# Altium integrated library Altium_WE-CNSW_rev25a.IntLib: 29 symbols
Pins are listed as number, name and electrical type; pins without a type are passive.

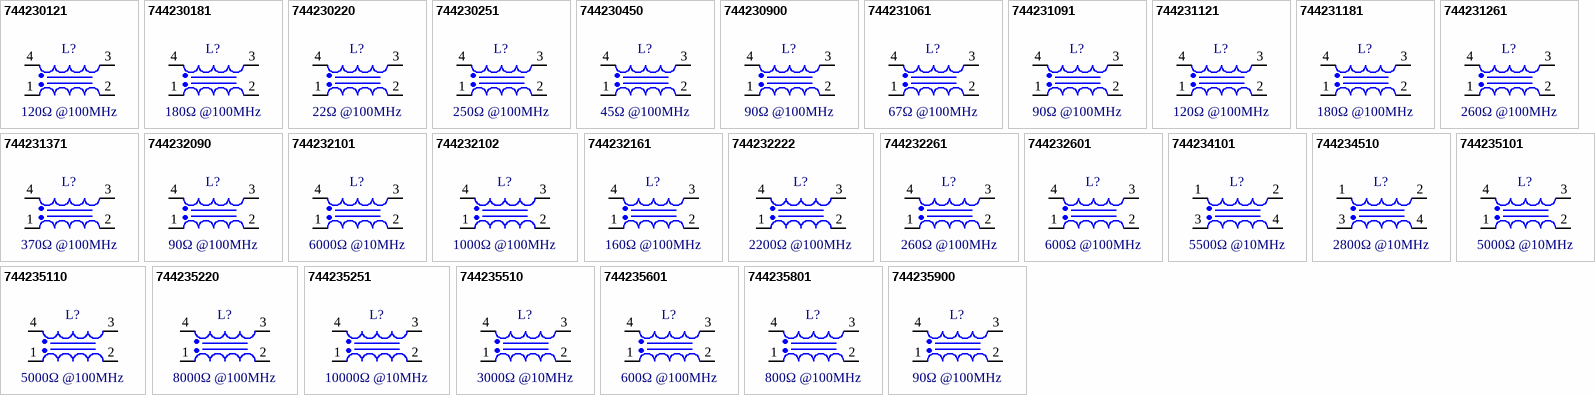
[diagram p0: symbols 744230121 to 744235900]

## 744230121
designator L?, comment 120Ω @100MHz
WE-CNSW SMT Common Mode Line Filter, size 0603, 120Ω @100MHz, 0.146μH, 50V; Manufacturer Part Number: 744230121; Manufacturer: Wurth Elektronik; Case/Size Code: 0603; DC Resistance Max: 0.175Ω; Insulation Test Voltage: 125VAC; Rated Current: 0.45A; Winding Style: bifiliar; Category: Common Mode Chokes; Match Code: WE-CNSW; ComponentLink1Description: Website Link; ComponentLink1URL: https://www.we-online.com/redexpert/article/744230121?ad; ComponentLink2Description: Datasheet Link; ComponentLink2URL: https://www.we-online.com/redexpert/spec/744230121?ad; Mount: Surface Mount; Min Operating Temperature: -40°C; Max Operating Temperature: 125°C; Packaging: Tape and Reel; Length: 1.6mm; Width: 0.85mm; Height: 1.1mm; Impedance @100MHz: 120Ω; Inductance: 0.146μH; Rated Voltage: 50V
footprint WE-CNSW_0603
pins: 1, 2, 3, 4

## 744230181
designator L?, comment 180Ω @100MHz
WE-CNSW SMT Common Mode Line Filter, size 0603, 180Ω @100MHz, 0.22μH, 50V; Manufacturer Part Number: 744230181; Manufacturer: Wurth Elektronik; Case/Size Code: 0603; DC Resistance Max: 0.21Ω; Insulation Test Voltage: 125VAC; Rated Current: 0.4A; Winding Style: bifiliar; Category: Common Mode Chokes; Match Code: WE-CNSW; ComponentLink1Description: Website Link; ComponentLink1URL: https://www.we-online.com/redexpert/article/744230181?ad; ComponentLink2Description: Datasheet Link; ComponentLink2URL: https://www.we-online.com/redexpert/spec/744230181?ad; Mount: Surface Mount; Min Operating Temperature: -40°C; Max Operating Temperature: 125°C; Packaging: Tape and Reel; Length: 1.6mm; Width: 0.85mm; Height: 1.1mm; Impedance @100MHz: 180Ω; Inductance: 0.22μH; Rated Voltage: 50V
footprint WE-CNSW_0603
pins: 1, 2, 3, 4

## 744230220
designator L?, comment 22Ω @100MHz
WE-CNSW SMT Common Mode Line Filter, size 0603, 22Ω @100MHz, 0.027μH, 50V; Manufacturer Part Number: 744230220; Manufacturer: Wurth Elektronik; Case/Size Code: 0603; DC Resistance Max: 0.08Ω; Insulation Test Voltage: 125VAC; Rated Current: 0.8A; Winding Style: bifiliar; Category: Common Mode Chokes; Match Code: WE-CNSW; ComponentLink1Description: Website Link; ComponentLink1URL: https://www.we-online.com/redexpert/article/744230220?ad; ComponentLink2Description: Datasheet Link; ComponentLink2URL: https://www.we-online.com/redexpert/spec/744230220?ad; Mount: Surface Mount; Min Operating Temperature: -40°C; Max Operating Temperature: 125°C; Packaging: Tape and Reel; Length: 1.6mm; Width: 0.85mm; Height: 1.1mm; Impedance @100MHz: 22Ω; Inductance: 0.027μH; Rated Voltage: 50V
footprint WE-CNSW_0603
pins: 1, 2, 3, 4

## 744230251
designator L?, comment 250Ω @100MHz
WE-CNSW SMT Common Mode Line Filter, size 0603, 250Ω @100MHz, 0.279μH, 50V; Manufacturer Part Number: 744230251; Manufacturer: Wurth Elektronik; Case/Size Code: 0603; DC Resistance Max: 0.28Ω; Insulation Test Voltage: 125VAC; Rated Current: 0.35A; Winding Style: bifiliar; Category: Common Mode Chokes; Match Code: WE-CNSW; ComponentLink1Description: Website Link; ComponentLink1URL: https://www.we-online.com/redexpert/article/744230251?ad; ComponentLink2Description: Datasheet Link; ComponentLink2URL: https://www.we-online.com/redexpert/spec/744230251?ad; Mount: Surface Mount; Min Operating Temperature: -40°C; Max Operating Temperature: 125°C; Packaging: Tape and Reel; Length: 1.6mm; Width: 0.85mm; Height: 1.1mm; Impedance @100MHz: 250Ω; Inductance: 0.279μH; Rated Voltage: 50V
footprint WE-CNSW_0603
pins: 1, 2, 3, 4

## 744230450
designator L?, comment 45Ω @100MHz
WE-CNSW SMT Common Mode Line Filter, size 0603, 45Ω @100MHz, 0.056μH, 50V; Manufacturer Part Number: 744230450; Manufacturer: Wurth Elektronik; Case/Size Code: 0603; DC Resistance Max: 0.11Ω; Insulation Test Voltage: 125VAC; Rated Current: 0.65A; Winding Style: bifiliar; Category: Common Mode Chokes; Match Code: WE-CNSW; ComponentLink1Description: Website Link; ComponentLink1URL: https://www.we-online.com/redexpert/article/744230450?ad; ComponentLink2Description: Datasheet Link; ComponentLink2URL: https://www.we-online.com/redexpert/spec/744230450?ad; Mount: Surface Mount; Min Operating Temperature: -40°C; Max Operating Temperature: 125°C; Packaging: Tape and Reel; Length: 1.6mm; Width: 0.85mm; Height: 1.1mm; Impedance @100MHz: 45Ω; Inductance: 0.056μH; Rated Voltage: 50V
footprint WE-CNSW_0603
pins: 1, 2, 3, 4

## 744230900
designator L?, comment 90Ω @100MHz
WE-CNSW SMT Common Mode Line Filter, size 0603, 90Ω @100MHz, 0.134μH, 50V; Manufacturer Part Number: 744230900; Manufacturer: Wurth Elektronik; Case/Size Code: 0603; DC Resistance Max: 0.145Ω; Insulation Test Voltage: 125VAC; Rated Current: 0.55A; Winding Style: bifiliar; Category: Common Mode Chokes; Match Code: WE-CNSW; ComponentLink1Description: Website Link; ComponentLink1URL: https://www.we-online.com/redexpert/article/744230900?ad; ComponentLink2Description: Datasheet Link; ComponentLink2URL: https://www.we-online.com/redexpert/spec/744230900?ad; Mount: Surface Mount; Min Operating Temperature: -40°C; Max Operating Temperature: 125°C; Packaging: Tape and Reel; Length: 1.6mm; Width: 0.85mm; Height: 1.1mm; Impedance @100MHz: 90Ω; Inductance: 0.134μH; Rated Voltage: 50V
footprint WE-CNSW_0603
pins: 1, 2, 3, 4

## 744231061
designator L?, comment 67Ω @100MHz
WE-CNSW SMT Common Mode Line Filter, size 0805, 67Ω @100MHz, 0.088μH, 50V; Manufacturer Part Number: 744231061; Manufacturer: Wurth Elektronik; Case/Size Code: 0805; DC Resistance Max: 0.25Ω; Insulation Test Voltage: 125VAC; Rated Current: 0.4A; Winding Style: bifiliar; Category: Common Mode Chokes; Match Code: WE-CNSW; ComponentLink1Description: Website Link; ComponentLink1URL: https://www.we-online.com/redexpert/article/744231061?ad; ComponentLink2Description: Datasheet Link; ComponentLink2URL: https://www.we-online.com/redexpert/spec/744231061?ad; Mount: Surface Mount; Min Operating Temperature: -40°C; Max Operating Temperature: 125°C; Packaging: Tape and Reel; Length: 2mm; Width: 1.2mm; Height: 1.2mm; Impedance @100MHz: 67Ω; Inductance: 0.088μH; Rated Voltage: 50V
footprint WE-CNSW_0805
pins: 1, 2, 3, 4

## 744231091
designator L?, comment 90Ω @100MHz
WE-CNSW SMT Common Mode Line Filter, size 0805, 90Ω @100MHz, 0.131μH, 50V; Manufacturer Part Number: 744231091; Manufacturer: Wurth Elektronik; Case/Size Code: 0805; DC Resistance Max: 0.3Ω; Insulation Test Voltage: 125VAC; Rated Current: 0.37A; Winding Style: bifiliar; Category: Common Mode Chokes; Match Code: WE-CNSW; ComponentLink1Description: Website Link; ComponentLink1URL: https://www.we-online.com/redexpert/article/744231091?ad; ComponentLink2Description: Datasheet Link; ComponentLink2URL: https://www.we-online.com/redexpert/spec/744231091?ad; Mount: Surface Mount; Min Operating Temperature: -40°C; Max Operating Temperature: 125°C; Packaging: Tape and Reel; Length: 2mm; Width: 1.2mm; Height: 1.2mm; Impedance @100MHz: 90Ω; Inductance: 0.131μH; Rated Voltage: 50V
footprint WE-CNSW_0805
pins: 1, 2, 3, 4

## 744231121
designator L?, comment 120Ω @100MHz
WE-CNSW SMT Common Mode Line Filter, size 0805, 120Ω @100MHz, 0.166μH, 50V; Manufacturer Part Number: 744231121; Manufacturer: Wurth Elektronik; Case/Size Code: 0805; DC Resistance Max: 0.3Ω; Insulation Test Voltage: 125VAC; Rated Current: 0.37A; Winding Style: bifiliar; Category: Common Mode Chokes; Match Code: WE-CNSW; ComponentLink1Description: Website Link; ComponentLink1URL: https://www.we-online.com/redexpert/article/744231121?ad; ComponentLink2Description: Datasheet Link; ComponentLink2URL: https://www.we-online.com/redexpert/spec/744231121?ad; Mount: Surface Mount; Min Operating Temperature: -40°C; Max Operating Temperature: 125°C; Packaging: Tape and Reel; Length: 2mm; Width: 1.2mm; Height: 1.2mm; Impedance @100MHz: 120Ω; Inductance: 0.166μH; Rated Voltage: 50V
footprint WE-CNSW_0805
pins: 1, 2, 3, 4

## 744231181
designator L?, comment 180Ω @100MHz
WE-CNSW SMT Common Mode Line Filter, size 0805, 180Ω @100MHz, 0.252μH, 50V; Manufacturer Part Number: 744231181; Manufacturer: Wurth Elektronik; Case/Size Code: 0805; DC Resistance Max: 0.35Ω; Insulation Test Voltage: 125VAC; Rated Current: 0.33A; Winding Style: bifiliar; Category: Common Mode Chokes; Match Code: WE-CNSW; ComponentLink1Description: Website Link; ComponentLink1URL: https://www.we-online.com/redexpert/article/744231181?ad; ComponentLink2Description: Datasheet Link; ComponentLink2URL: https://www.we-online.com/redexpert/spec/744231181?ad; Mount: Surface Mount; Min Operating Temperature: -40°C; Max Operating Temperature: 125°C; Packaging: Tape and Reel; Length: 2mm; Width: 1.2mm; Height: 1.2mm; Impedance @100MHz: 180Ω; Inductance: 0.252μH; Rated Voltage: 50V
footprint WE-CNSW_0805
pins: 1, 2, 3, 4

## 744231261
designator L?, comment 260Ω @100MHz
WE-CNSW SMT Common Mode Line Filter, size 0805, 260Ω @100MHz, 0.367μH, 50V; Manufacturer Part Number: 744231261; Manufacturer: Wurth Elektronik; Case/Size Code: 0805; DC Resistance Max: 0.4Ω; Insulation Test Voltage: 125VAC; Rated Current: 0.3A; Winding Style: bifiliar; Category: Common Mode Chokes; Match Code: WE-CNSW; ComponentLink1Description: Website Link; ComponentLink1URL: https://www.we-online.com/redexpert/article/744231261?ad; ComponentLink2Description: Datasheet Link; ComponentLink2URL: https://www.we-online.com/redexpert/spec/744231261?ad; Mount: Surface Mount; Min Operating Temperature: -40°C; Max Operating Temperature: 125°C; Packaging: Tape and Reel; Length: 2mm; Width: 1.2mm; Height: 1.2mm; Impedance @100MHz: 260Ω; Inductance: 0.367μH; Rated Voltage: 50V
footprint WE-CNSW_0805
pins: 1, 2, 3, 4

## 744231371
designator L?, comment 370Ω @100MHz
WE-CNSW SMT Common Mode Line Filter, size 0805, 370Ω @100MHz, 0.478μH, 50V; Manufacturer Part Number: 744231371; Manufacturer: Wurth Elektronik; Case/Size Code: 0805; DC Resistance Max: 0.45Ω; Insulation Test Voltage: 125VAC; Rated Current: 0.28A; Winding Style: bifiliar; Category: Common Mode Chokes; Match Code: WE-CNSW; ComponentLink1Description: Website Link; ComponentLink1URL: https://www.we-online.com/redexpert/article/744231371?ad; ComponentLink2Description: Datasheet Link; ComponentLink2URL: https://www.we-online.com/redexpert/spec/744231371?ad; Mount: Surface Mount; Min Operating Temperature: -40°C; Max Operating Temperature: 125°C; Packaging: Tape and Reel; Length: 2mm; Width: 1.2mm; Height: 1.2mm; Impedance @100MHz: 370Ω; Inductance: 0.478μH; Rated Voltage: 50V
footprint WE-CNSW_0805
pins: 1, 2, 3, 4

## 744232090
designator L?, comment 90Ω @100MHz
WE-CNSW SMT Common Mode Line Filter, size 1206, 90Ω @100MHz, 0.111μH, 50V; Manufacturer Part Number: 744232090; Manufacturer: Wurth Elektronik; Case/Size Code: 1206; DC Resistance Max: 0.3Ω; Insulation Test Voltage: 125VAC; Rated Current: 0.37A; Winding Style: bifiliar; Category: Common Mode Chokes; Match Code: WE-CNSW; ComponentLink1Description: Website Link; ComponentLink1URL: https://www.we-online.com/redexpert/article/744232090?ad; ComponentLink2Description: Datasheet Link; ComponentLink2URL: https://www.we-online.com/redexpert/spec/744232090?ad; Mount: Surface Mount; Min Operating Temperature: -40°C; Max Operating Temperature: 125°C; Packaging: Tape and Reel; Length: 3.2mm; Width: 1.6mm; Height: 1.8mm; Impedance @100MHz: 90Ω; Inductance: 0.111μH; Rated Voltage: 50V
footprint WE-CNSW_1206
pins: 1, 2, 3, 4

## 744232101
designator L?, comment 6000Ω @10MHz
WE-CNSW SMT Common Mode Line Filter, size 1206, 6000Ω @10MHz, 105.3μH, 50V; Manufacturer Part Number: 744232101; Manufacturer: Wurth Elektronik; Case/Size Code: 1206; DC Resistance Max: 5.5Ω; Insulation Test Voltage: 125VAC; Rated Current: 0.09A; Winding Style: bifiliar; Category: Common Mode Chokes; Match Code: WE-CNSW; ComponentLink1Description: Website Link; ComponentLink1URL: https://www.we-online.com/redexpert/article/744232101?ad; ComponentLink2Description: Datasheet Link; ComponentLink2URL: https://www.we-online.com/redexpert/spec/744232101?ad; Mount: Surface Mount; Min Operating Temperature: -40°C; Max Operating Temperature: 125°C; Packaging: Tape and Reel; Length: 3.2mm; Width: 1.6mm; Height: 1.8mm; Impedance @10MHz: 6000Ω; Inductance: 105.3μH; Rated Voltage: 50V
footprint WE-CNSW_1206
pins: 1, 2, 3, 4

## 744232102
designator L?, comment 1000Ω @100MHz
WE-CNSW SMT Common Mode Line Filter, size 1206, 1000Ω @100MHz, 1.263μH, 50V; Manufacturer Part Number: 744232102; Manufacturer: Wurth Elektronik; Case/Size Code: 1206; DC Resistance Max: 1Ω; Insulation Test Voltage: 125VAC; Rated Current: 0.23A; Winding Style: bifiliar; Category: Common Mode Chokes; Match Code: WE-CNSW; ComponentLink1Description: Website Link; ComponentLink1URL: https://www.we-online.com/redexpert/article/744232102?ad; ComponentLink2Description: Datasheet Link; ComponentLink2URL: https://www.we-online.com/redexpert/spec/744232102?ad; Mount: Surface Mount; Min Operating Temperature: -40°C; Max Operating Temperature: 125°C; Packaging: Tape and Reel; Length: 3.2mm; Width: 1.6mm; Height: 1.8mm; Impedance @100MHz: 1000Ω; Inductance: 1.263μH; Rated Voltage: 50V
footprint WE-CNSW_1206
pins: 1, 2, 3, 4

## 744232161
designator L?, comment 160Ω @100MHz
WE-CNSW SMT Common Mode Line Filter, size 1206, 160Ω @100MHz, 0.196μH, 50V; Manufacturer Part Number: 744232161; Manufacturer: Wurth Elektronik; Case/Size Code: 1206; DC Resistance Max: 0.4Ω; Insulation Test Voltage: 125VAC; Rated Current: 0.34A; Winding Style: bifiliar; Category: Common Mode Chokes; Match Code: WE-CNSW; ComponentLink1Description: Website Link; ComponentLink1URL: https://www.we-online.com/redexpert/article/744232161?ad; ComponentLink2Description: Datasheet Link; ComponentLink2URL: https://www.we-online.com/redexpert/spec/744232161?ad; Mount: Surface Mount; Min Operating Temperature: -40°C; Max Operating Temperature: 125°C; Packaging: Tape and Reel; Length: 3.2mm; Width: 1.6mm; Height: 1.8mm; Impedance @100MHz: 160Ω; Inductance: 0.196μH; Rated Voltage: 50V
footprint WE-CNSW_1206
pins: 1, 2, 3, 4

## 744232222
designator L?, comment 2200Ω @100MHz
WE-CNSW SMT Common Mode Line Filter, size 1206, 2200Ω @100MHz, 2.578μH, 50V; Manufacturer Part Number: 744232222; Manufacturer: Wurth Elektronik; Case/Size Code: 1206; DC Resistance Max: 1.2Ω; Insulation Test Voltage: 125VAC; Rated Current: 0.2A; Winding Style: bifiliar; Category: Common Mode Chokes; Match Code: WE-CNSW; ComponentLink1Description: Website Link; ComponentLink1URL: https://www.we-online.com/redexpert/article/744232222?ad; ComponentLink2Description: Datasheet Link; ComponentLink2URL: https://www.we-online.com/redexpert/spec/744232222?ad; Mount: Surface Mount; Min Operating Temperature: -40°C; Max Operating Temperature: 125°C; Packaging: Tape and Reel; Length: 3.2mm; Width: 1.6mm; Height: 1.8mm; Impedance @100MHz: 2200Ω; Inductance: 2.578μH; Rated Voltage: 50V
footprint WE-CNSW_1206
pins: 1, 2, 3, 4

## 744232261
designator L?, comment 260Ω @100MHz
WE-CNSW SMT Common Mode Line Filter, size 1206, 260Ω @100MHz, 0.304μH, 50V; Manufacturer Part Number: 744232261; Manufacturer: Wurth Elektronik; Case/Size Code: 1206; DC Resistance Max: 0.5Ω; Insulation Test Voltage: 125VAC; Rated Current: 0.31A; Winding Style: bifiliar; Category: Common Mode Chokes; Match Code: WE-CNSW; ComponentLink1Description: Website Link; ComponentLink1URL: https://www.we-online.com/redexpert/article/744232261?ad; ComponentLink2Description: Datasheet Link; ComponentLink2URL: https://www.we-online.com/redexpert/spec/744232261?ad; Mount: Surface Mount; Min Operating Temperature: -40°C; Max Operating Temperature: 125°C; Packaging: Tape and Reel; Length: 3.2mm; Width: 1.6mm; Height: 1.8mm; Impedance @100MHz: 260Ω; Inductance: 0.304μH; Rated Voltage: 50V
footprint WE-CNSW_1206
pins: 1, 2, 3, 4

## 744232601
designator L?, comment 600Ω @100MHz
WE-CNSW SMT Common Mode Line Filter, size 1206, 600Ω @100MHz, 0.3621μH, 50V; Manufacturer Part Number: 744232601; Manufacturer: Wurth Elektronik; Case/Size Code: 1206; DC Resistance Max: 0.8Ω; Insulation Test Voltage: 125VAC; Rated Current: 0.26A; Winding Style: bifiliar; Category: Common Mode Chokes; Match Code: WE-CNSW; ComponentLink1Description: Website Link; ComponentLink1URL: https://www.we-online.com/redexpert/article/744232601?ad; ComponentLink2Description: Datasheet Link; ComponentLink2URL: https://www.we-online.com/redexpert/spec/744232601?ad; Mount: Surface Mount; Min Operating Temperature: -40°C; Max Operating Temperature: 125°C; Packaging: Tape and Reel; Length: 3.2mm; Width: 1.6mm; Height: 1.8mm; Impedance @100MHz: 600Ω; Inductance: 0.3621μH; Rated Voltage: 50V
footprint WE-CNSW_1206
pins: 1, 2, 3, 4

## 744234101
designator L?, comment 5500Ω @10MHz
WE-CNSW SMT Common Mode Line Filter, size 1210, 5500Ω @10MHz, 100μH, 50V; Manufacturer Part Number: 744234101; Manufacturer: Wurth Elektronik; Case/Size Code: 1210; DC Resistance Max: 3Ω; Insulation Test Voltage: 125VAC; Rated Current: 0.2A; Winding Style: bifiliar; Category: Common Mode Chokes; Match Code: WE-CNSW; ComponentLink1Description: Website Link; ComponentLink1URL: https://www.we-online.com/redexpert/article/744234101?ad; ComponentLink2Description: Datasheet Link; ComponentLink2URL: https://www.we-online.com/redexpert/spec/744234101?ad; Mount: Surface Mount; Min Operating Temperature: -40°C; Max Operating Temperature: 125°C; Packaging: Tape and Reel; Length: 3.2mm; Width: 2.5mm; Height: 2.4mm; Impedance @10MHz: 5500Ω; Inductance: 100μH; Rated Voltage: 50V
footprint WE-CNSW_1210
pins: 1, 2, 3, 4

## 744234510
designator L?, comment 2800Ω @10MHz
WE-CNSW SMT Common Mode Line Filter, size 1210, 2800Ω @10MHz, 51μH, 50V; Manufacturer Part Number: 744234510; Manufacturer: Wurth Elektronik; Case/Size Code: 1210; DC Resistance Max: 1.1Ω; Insulation Test Voltage: 125VAC; Rated Current: 0.4A; Winding Style: bifiliar; Category: Common Mode Chokes; Match Code: WE-CNSW; ComponentLink1Description: Website Link; ComponentLink1URL: https://www.we-online.com/redexpert/article/744234510?ad; ComponentLink2Description: Datasheet Link; ComponentLink2URL: https://www.we-online.com/redexpert/spec/744234510?ad; Mount: Surface Mount; Min Operating Temperature: -40°C; Max Operating Temperature: 125°C; Packaging: Tape and Reel; Length: 3.2mm; Width: 2.5mm; Height: 2.4mm; Impedance @10MHz: 2800Ω; Inductance: 51μH; Rated Voltage: 50V
footprint WE-CNSW_1210
pins: 1, 2, 3, 4

## 744235101
designator L?, comment 5000Ω @10MHz
WE-CNSW SMT Common Mode Line Filter, size 1812, 5000Ω @10MHz, 100μH, 60V; Manufacturer Part Number: 744235101; Manufacturer: Wurth Elektronik; Case/Size Code: 1812; DC Resistance Max: 2Ω; Insulation Test Voltage: 125VAC; Rated Current: 0.15A; Winding Style: bifiliar; Category: Common Mode Chokes; Match Code: WE-CNSW; ComponentLink1Description: Website Link; ComponentLink1URL: https://www.we-online.com/redexpert/article/744235101?ad; ComponentLink2Description: Datasheet Link; ComponentLink2URL: https://www.we-online.com/redexpert/spec/744235101?ad; Mount: Surface Mount; Min Operating Temperature: -40°C; Max Operating Temperature: 125°C; Packaging: Tape and Reel; Length: 4.5mm; Width: 3.2mm; Height: 2.8mm; Impedance @10MHz: 5000Ω; Inductance: 100μH; Rated Voltage: 60V
footprint WE-CNSW_1812
pins: 1, 2, 3, 4

## 744235110
designator L?, comment 5000Ω @100MHz
WE-CNSW SMT Common Mode Line Filter, size 1812, 5000Ω @100MHz, 11μH, 60V; Manufacturer Part Number: 744235110; Manufacturer: Wurth Elektronik; Case/Size Code: 1812; DC Resistance Max: 0.8Ω; Insulation Test Voltage: 125VAC; Rated Current: 0.45A; Winding Style: bifiliar; Category: Common Mode Chokes; Match Code: WE-CNSW; ComponentLink1Description: Website Link; ComponentLink1URL: https://www.we-online.com/redexpert/article/744235110?ad; ComponentLink2Description: Datasheet Link; ComponentLink2URL: https://www.we-online.com/redexpert/spec/744235110?ad; Mount: Surface Mount; Min Operating Temperature: -40°C; Max Operating Temperature: 125°C; Packaging: Tape and Reel; Length: 4.5mm; Width: 3.2mm; Height: 2.8mm; Impedance @100MHz: 5000Ω; Inductance: 11μH; Rated Voltage: 60V
footprint WE-CNSW_1812
pins: 1, 2, 3, 4

## 744235220
designator L?, comment 8000Ω @100MHz
WE-CNSW SMT Common Mode Line Filter, size 1812, 8000Ω @100MHz, 22μH, 60V; Manufacturer Part Number: 744235220; Manufacturer: Wurth Elektronik; Case/Size Code: 1812; DC Resistance Max: 2.65Ω; Insulation Test Voltage: 125VAC; Rated Current: 0.25A; Winding Style: bifiliar; Category: Common Mode Chokes; Match Code: WE-CNSW; ComponentLink1Description: Website Link; ComponentLink1URL: https://www.we-online.com/redexpert/article/744235220?ad; ComponentLink2Description: Datasheet Link; ComponentLink2URL: https://www.we-online.com/redexpert/spec/744235220?ad; Mount: Surface Mount; Min Operating Temperature: -40°C; Max Operating Temperature: 125°C; Packaging: Tape and Reel; Length: 4.5mm; Width: 3.2mm; Height: 2.8mm; Impedance @100MHz: 8000Ω; Inductance: 22μH; Rated Voltage: 60V
footprint WE-CNSW_1812
pins: 1, 2, 3, 4

## 744235251
designator L?, comment 10000Ω @10MHz
WE-CNSW SMT Common Mode Line Filter, size 1812, 10000Ω @10MHz, 250μH, 60V; Manufacturer Part Number: 744235251; Manufacturer: Wurth Elektronik; Case/Size Code: 1812; DC Resistance Max: 1.6Ω; Insulation Test Voltage: 125VAC; Rated Current: 0.2A; Winding Style: bifiliar; Category: Common Mode Chokes; Match Code: WE-CNSW; ComponentLink1Description: Website Link; ComponentLink1URL: https://www.we-online.com/redexpert/article/744235251?ad; ComponentLink2Description: Datasheet Link; ComponentLink2URL: https://www.we-online.com/redexpert/spec/744235251?ad; Mount: Surface Mount; Min Operating Temperature: -40°C; Max Operating Temperature: 125°C; Packaging: Tape and Reel; Length: 4.5mm; Width: 3.2mm; Height: 2.8mm; Impedance @10MHz: 10000Ω; Inductance: 250μH; Rated Voltage: 60V
footprint WE-CNSW_1812
pins: 1, 2, 3, 4

## 744235510
designator L?, comment 3000Ω @10MHz
WE-CNSW SMT Common Mode Line Filter, size 1812, 3000Ω @10MHz, 51μH, 60V; Manufacturer Part Number: 744235510; Manufacturer: Wurth Elektronik; Case/Size Code: 1812; DC Resistance Max: 1Ω; Insulation Test Voltage: 125VAC; Rated Current: 0.2A; Winding Style: bifiliar; Category: Common Mode Chokes; Match Code: WE-CNSW; ComponentLink1Description: Website Link; ComponentLink1URL: https://www.we-online.com/redexpert/article/744235510?ad; ComponentLink2Description: Datasheet Link; ComponentLink2URL: https://www.we-online.com/redexpert/spec/744235510?ad; Mount: Surface Mount; Min Operating Temperature: -40°C; Max Operating Temperature: 125°C; Packaging: Tape and Reel; Length: 4.5mm; Width: 3.2mm; Height: 2.8mm; Impedance @10MHz: 3000Ω; Inductance: 51μH; Rated Voltage: 60V
footprint WE-CNSW_1812
pins: 1, 2, 3, 4

## 744235601
designator L?, comment 600Ω @100MHz
WE-CNSW SMT Common Mode Line Filter, size 1812, 600Ω @100MHz, 1μH, 60V; Manufacturer Part Number: 744235601; Manufacturer: Wurth Elektronik; Case/Size Code: 1812; DC Resistance Max: 0.1Ω; Insulation Test Voltage: 125VAC; Rated Current: 1.2A; Winding Style: bifiliar; Category: Common Mode Chokes; Match Code: WE-CNSW; ComponentLink1Description: Website Link; ComponentLink1URL: https://www.we-online.com/redexpert/article/744235601?ad; ComponentLink2Description: Datasheet Link; ComponentLink2URL: https://www.we-online.com/redexpert/spec/744235601?ad; Mount: Surface Mount; Min Operating Temperature: -40°C; Max Operating Temperature: 125°C; Packaging: Tape and Reel; Length: 4.5mm; Width: 3.2mm; Height: 2.8mm; Impedance @100MHz: 600Ω; Inductance: 1μH; Rated Voltage: 60V
footprint WE-CNSW_1812
pins: 1, 2, 3, 4

## 744235801
designator L?, comment 800Ω @100MHz
WE-CNSW SMT Common Mode Line Filter, size 1812, 800Ω @100MHz, 1.3μH, 60V; Manufacturer Part Number: 744235801; Manufacturer: Wurth Elektronik; Case/Size Code: 1812; DC Resistance Max: 0.12Ω; Insulation Test Voltage: 125VAC; Rated Current: 1A; Winding Style: bifiliar; Category: Common Mode Chokes; Match Code: WE-CNSW; ComponentLink1Description: Website Link; ComponentLink1URL: https://www.we-online.com/redexpert/article/744235801?ad; ComponentLink2Description: Datasheet Link; ComponentLink2URL: https://www.we-online.com/redexpert/spec/744235801?ad; Mount: Surface Mount; Min Operating Temperature: -40°C; Max Operating Temperature: 125°C; Packaging: Tape and Reel; Length: 4.5mm; Width: 3.2mm; Height: 2.8mm; Impedance @100MHz: 800Ω; Inductance: 1.3μH; Rated Voltage: 60V
footprint WE-CNSW_1812
pins: 1, 2, 3, 4

## 744235900
designator L?, comment 90Ω @100MHz
WE-CNSW SMT Common Mode Line Filter, size 1812, 90Ω @100MHz, 0.3μH, 60V; Manufacturer Part Number: 744235900; Manufacturer: Wurth Elektronik; Case/Size Code: 1812; DC Resistance Max: 0.05Ω; Insulation Test Voltage: 125VAC; Rated Current: 2A; Winding Style: bifiliar; Category: Common Mode Chokes; Match Code: WE-CNSW; ComponentLink1Description: Website Link; ComponentLink1URL: https://www.we-online.com/redexpert/article/744235900?ad; ComponentLink2Description: Datasheet Link; ComponentLink2URL: https://www.we-online.com/redexpert/spec/744235900?ad; Mount: Surface Mount; Min Operating Temperature: -40°C; Max Operating Temperature: 125°C; Packaging: Tape and Reel; Length: 4.5mm; Width: 3.2mm; Height: 2.8mm; Impedance @100MHz: 90Ω; Inductance: 0.3μH; Rated Voltage: 60V
footprint WE-CNSW_1812
pins: 1, 2, 3, 4